# EAGLE library part PINHD-1X06 (library Tinkercad)
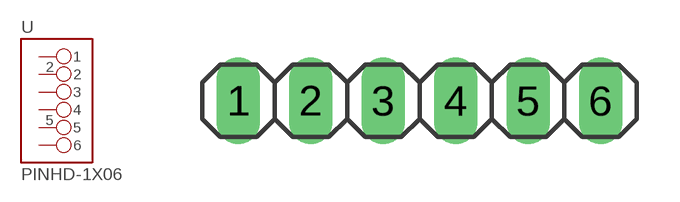
[diagram p45: symbol with the pads of 1X06; footprint 1X06]

Designator prefix -

## PINHD-1X06_1X06M  [1X06]
1  1
2  2
3  3
4  4
5  5
6  6

## Footprint 1X06 (pad centres in mm)
PIN HEADER
drill 1.016 long: 1 -6.35,0; 2 -3.81,0; 3 -1.27,0; 4 1.27,0; 5 3.81,0; 6 6.35,0